# Altium schematic symbol library RES 24.3k 1_8W.Schlib: 1 symbol
Pins are listed as number, name and electrical type; pins without a type are passive.

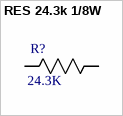
[diagram p0: symbol RES 24.3k 1/8W]

## RES 24.3k 1/8W
designator R?, comment 24.3K
RES SMD 24.3K OHM 1% 1/8W 0805; Power (Watts): 0.125W; Package: 0805; Value: 24.3k; Tolerance: 1%
footprint 0805
footprint 0603
pins: 1 R1, 2 R2